# EAGLE library part JS202011CQN (library switches)
DPDT through hole
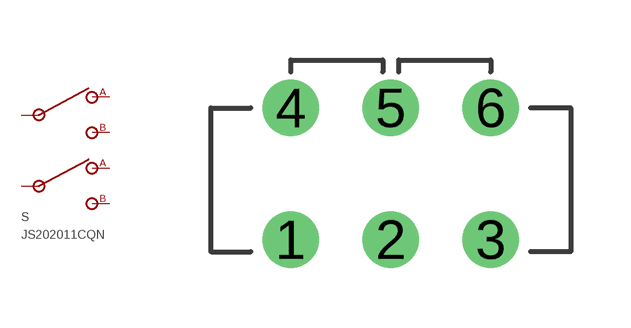
[diagram p15: symbol with the pads of JS202011CQN; footprint JS202011CQN]

Designator prefix S

## JS202011CQN (DIGIKEY: 401-2001-ND; MANUFACTURER: C&K; MPN: JS202011CQN)  [JS202011CQN]
1  A2
2  I2
3  B2
4  A1
5  I1
6  B1

## Footprint JS202011CQN (pad centres in mm)
drill 0.9: 1 0,0; 2 2.5,0; 3 5,0; 4 0,3.3; 5 2.5,3.3; 6 5,3.3